# Altium footprint library Analog Devices Amplifiers and Linear Comparators.PcbLib: 67 footprints (part 2 of 5)
Each footprint in its own frame and in the unit in brackets; x right, y up, seen from the top. Pads: shape width x height; smd on the part's side, far side on the other; paste and mask are expansions set on the pad; w line width, h text height; cw(c..) or ccw(c..) is an arc to the next point about the centre after c.
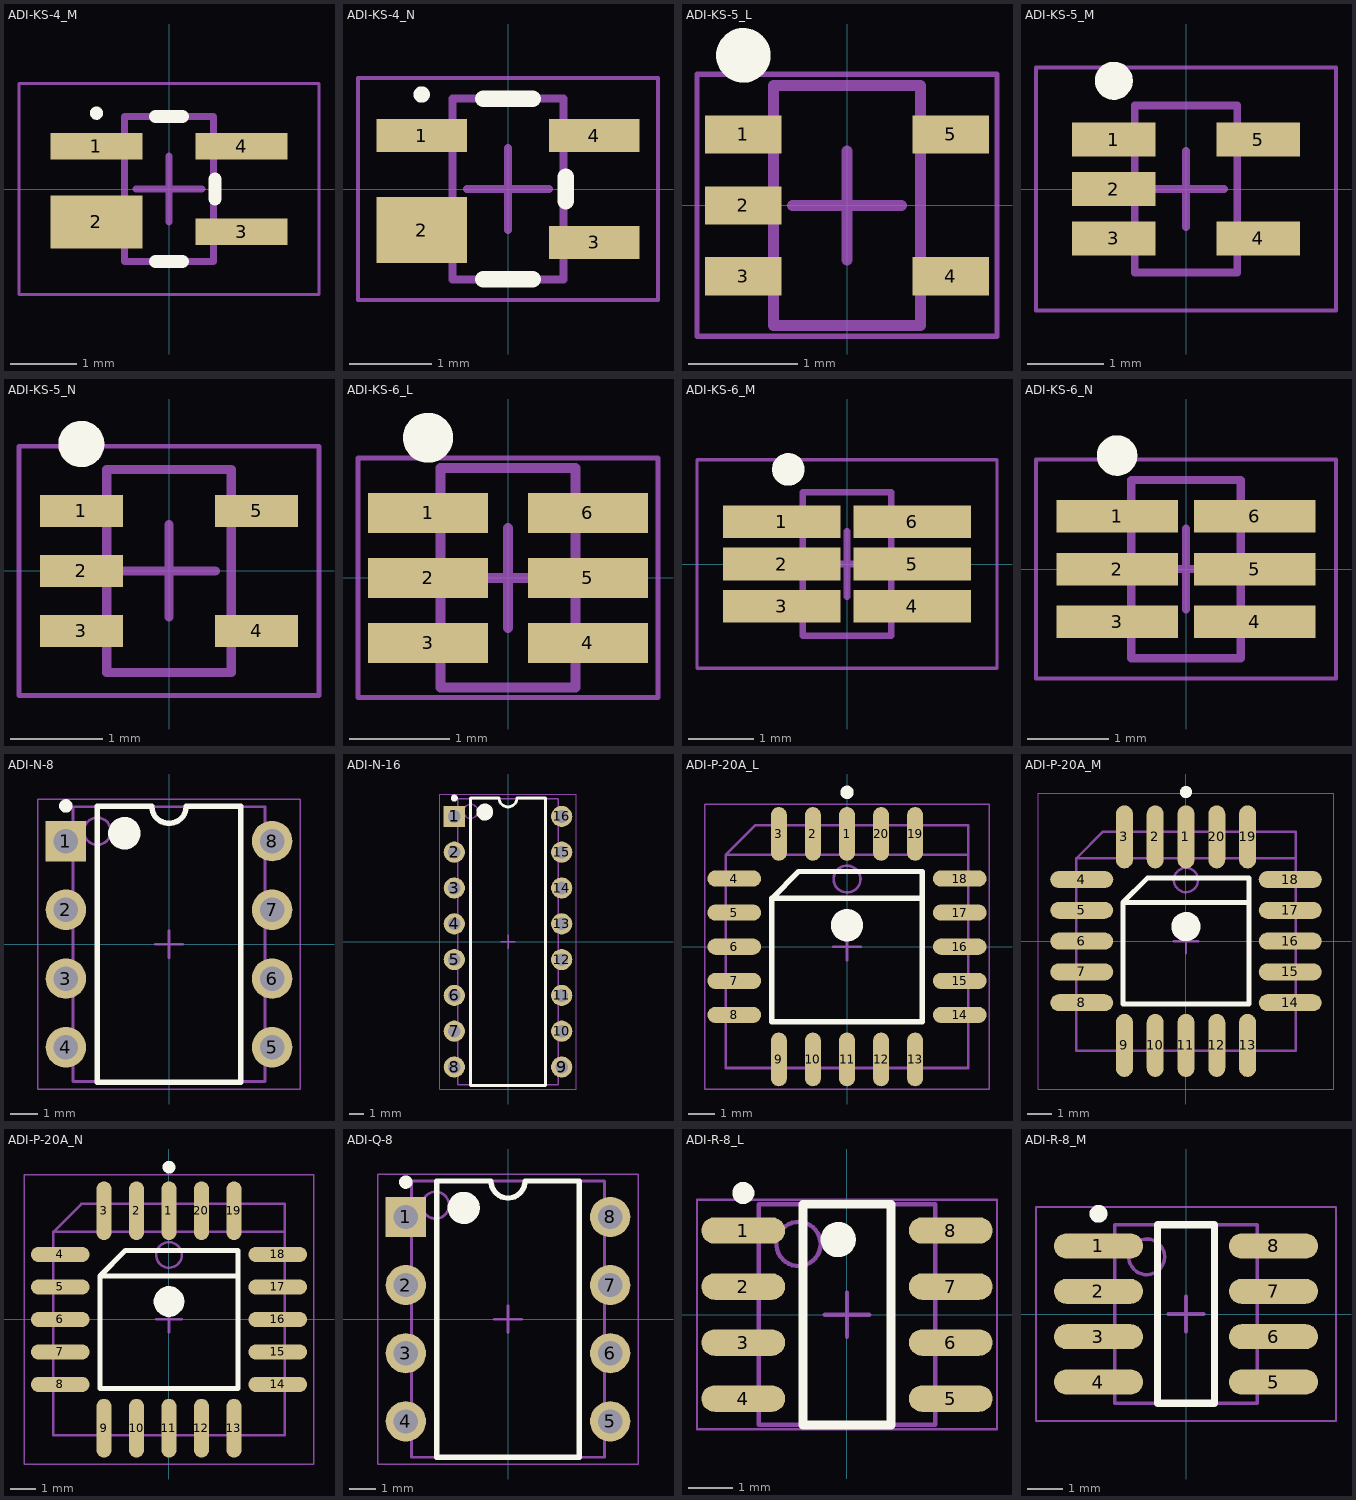
[diagram p1: the footprints below, top view; thin cyan lines are the x and y axes]

## ADI-KS-4_M [mm] "SOT143_343, 4-Leads, Body 2x1.25mm, Pitch 1.3mm, IPC Low Density"
height 1.1
pads (4):
  rect 1.4x0.4 smd: 1(-1.1,0.65) 3(1.1,-0.65) 4(1.1,0.65)
  rect 1.4x0.8 smd: 2(-1.1,-0.5)
Top Overlay:
  circle w0.1: c-1.1,1.15 r0.05
  lines w0.2: -0.2,-1.1 0.2,-1.1 ; -0.2,1.1 0.2,1.1 ; 0.7,-0.15 0.7,0.15
Mechanical 13:
  lines w0.1: -0.675,-1.1 -0.675,1.1 0.675,1.1 0.675,-1.1 -0.675,-1.1
Mechanical 15:
  lines w0.05: -2.275,-1.6 -2.275,1.6 2.275,1.6 2.275,-1.6 -2.275,-1.6
  lines w0.1: -0.5,0 0.5,0 ; 0,-0.5 0,0.5
3D body: height 1.1, standoff 0.1, extent -0.675,-1.1 0.675,1.1

## ADI-KS-4_N [mm] "SOT143_343, 4-Leads, Body 2x1.25mm, Pitch 1.3mm, IPC Medium Density"
height 1.1
pads (4):
  rect 1.1x0.4 smd: 1(-1.05,0.65) 3(1.05,-0.65) 4(1.05,0.65)
  rect 1.1x0.8 smd: 2(-1.05,-0.5)
Top Overlay:
  circle w0.1: c-1.05,1.15 r0.05
  lines w0.2: -0.3,-1.1 0.3,-1.1 ; -0.3,1.1 0.3,1.1 ; 0.7,-0.15 0.7,0.15
Mechanical 13:
  lines w0.1: -0.675,-1.1 -0.675,1.1 0.675,1.1 0.675,-1.1 -0.675,-1.1
Mechanical 15:
  lines w0.05: -1.825,-1.35 -1.825,1.35 1.825,1.35 1.825,-1.35 -1.825,-1.35
  lines w0.1: -0.5,0 0.5,0 ; 0,-0.5 0,0.5
3D body: height 1.1, standoff 0.1, extent -0.675,-1.1 0.675,1.1

## ADI-KS-5_L [mm] "SOT23, 5-Leads, Body 2x1.25mm, Pitch 0.65mm, IPC High Density"
height 1.1
pads (5):
  rect 0.7x0.35 smd: 1(-0.95,0.65) 2(-0.95,0) 3(-0.95,-0.65) 4(0.95,-0.65) 5(0.95,0.65)
Top Overlay:
  circle w0.25: c-0.95,1.375 r0.125
Mechanical 13:
  lines w0.1: -0.675,-1.1 -0.675,1.1 0.675,1.1 0.675,-1.1 -0.675,-1.1
Mechanical 15:
  lines w0.05: -1.375,-1.2 -1.375,1.2 1.375,1.2 1.375,-1.2 -1.375,-1.2
  lines w0.1: -0.5,0 0.5,0 ; 0,-0.5 0,0.5
3D body: height 1.1, standoff 0.1, extent -0.675,-1.1 0.675,1.1

## ADI-KS-5_M [mm] "SOT23, 5-Leads, Body 2x1.25mm, Pitch 0.65mm, IPC Low Density"
height 1.1
pads (5):
  rect 1.1x0.45 smd: 1(-0.95,0.65) 2(-0.95,0) 3(-0.95,-0.65) 4(0.95,-0.65) 5(0.95,0.65)
Top Overlay:
  circle w0.25: c-0.95,1.425 r0.125
Mechanical 13:
  lines w0.1: -0.675,-1.1 -0.675,1.1 0.675,1.1 0.675,-1.1 -0.675,-1.1
Mechanical 15:
  lines w0.05: -1.975,-1.6 -1.975,1.6 1.975,1.6 1.975,-1.6 -1.975,-1.6
  lines w0.1: -0.5,0 0.5,0 ; 0,-0.5 0,0.5
3D body: height 1.1, standoff 0.1, extent -0.675,-1.1 0.675,1.1

## ADI-KS-5_N [mm] "SOT23, 5-Leads, Body 2x1.25mm, Pitch 0.65mm, IPC Medium Density"
height 1.1
pads (5):
  rect 0.9x0.35 smd: 1(-0.95,0.65) 2(-0.95,0) 3(-0.95,-0.65) 4(0.95,-0.65) 5(0.95,0.65)
Top Overlay:
  circle w0.25: c-0.95,1.375 r0.125
Mechanical 13:
  lines w0.1: -0.675,-1.1 -0.675,1.1 0.675,1.1 0.675,-1.1 -0.675,-1.1
Mechanical 15:
  lines w0.05: -1.625,-1.35 -1.625,1.35 1.625,1.35 1.625,-1.35 -1.625,-1.35
  lines w0.1: -0.5,0 0.5,0 ; 0,-0.5 0,0.5
3D body: height 1.1, standoff 0.1, extent -0.675,-1.1 0.675,1.1

## ADI-KS-6_L [mm] "SOT23, 6-Leads, Body 2x1.25mm, Pitch 0.65mm, IPC High Density"
height 1.1
pads (6):
  rect 1.2x0.4 smd: 1(-0.8,0.65) 2(-0.8,0) 3(-0.8,-0.65) 4(0.8,-0.65) 5(0.8,0) 6(0.8,0.65)
Top Overlay:
  circle w0.25: c-0.8,1.4 r0.125
Mechanical 13:
  lines w0.1: -0.675,-1.1 -0.675,1.1 0.675,1.1 0.675,-1.1 -0.675,-1.1
Mechanical 15:
  lines w0.05: -1.5,-1.2 -1.5,1.2 1.5,1.2 1.5,-1.2 -1.5,-1.2
  lines w0.1: -0.5,0 0.5,0 ; 0,-0.5 0,0.5
3D body: height 1.1, standoff 0.1, extent -0.675,-1.1 0.675,1.1

## ADI-KS-6_M [mm] "SOT23, 6-Leads, Body 2x1.25mm, Pitch 0.65mm, IPC Low Density"
height 1.1
pads (6):
  rect 1.8x0.5 smd: 1(-1,0.65) 2(-1,0) 3(-1,-0.65) 4(1,-0.65) 5(1,0) 6(1,0.65)
Top Overlay:
  circle w0.25: c-0.9,1.45 r0.125
Mechanical 13:
  lines w0.1: -0.675,-1.1 0.675,-1.1 0.675,1.1 -0.675,1.1 -0.675,-1.1
Mechanical 15:
  lines w0.05: -2.3,-1.6 2.3,-1.6 2.3,1.6 -2.3,1.6 -2.3,-1.6
  lines w0.1: -0.5,0 0.5,0 ; 0,-0.5 0,0.5
3D body: height 1.1, standoff 0.1, extent -0.675,-1.1 0.675,1.1

## ADI-KS-6_N [mm] "SOT23, 6-Leads, Body 2x1.25mm, Pitch 0.65mm, IPC Medium Density"
height 1.1
pads (6):
  rect 1.5x0.4 smd: 1(-0.85,0.65) 2(-0.85,0) 3(-0.85,-0.65) 4(0.85,-0.65) 5(0.85,0) 6(0.85,0.65)
Top Overlay:
  circle w0.25: c-0.85,1.4 r0.125
Mechanical 13:
  lines w0.1: -0.675,-1.1 0.675,-1.1 0.675,1.1 -0.675,1.1 -0.675,-1.1
Mechanical 15:
  lines w0.05: -1.85,-1.35 1.85,-1.35 1.85,1.35 -1.85,1.35 -1.85,-1.35
  lines w0.1: -0.5,0 0.5,0 ; 0,-0.5 0,0.5
3D body: height 1.1, standoff 0.1, extent -0.675,-1.1 0.675,1.1

## ADI-N-8 [mm] "DIP, 8-Leads, Body 9.59x6.6mm, Pitch 2.54mm"
height 5.33
pads (8):
  rect 1.5x1.5 hole 0.9: 1(-3.81,3.81)
  round 1.5 hole 0.9: 2(-3.81,1.27) 3(-3.81,-1.27) 4(-3.81,-3.81) 5(3.81,-3.81) 6(3.81,-1.27) 7(3.81,1.27) 8(3.81,3.81)
Top Overlay:
  circle w0.25: c-3.81,5.11 r0.125
  circle w0.6: c-1.65,4.1 r0.3
  lines w0.2: -2.65,-5.1 -2.65,5.1 -0.635,5.1 ccw(c0,5.1) 0.635,5.1 2.65,5.1 2.65,-5.1 -2.65,-5.1
Mechanical 13:
  circle w0.1: c-2.65,4.175 r0.5
  lines w0.1: -3.55,-5.075 -3.55,5.075 3.55,5.075 3.55,-5.075 -3.55,-5.075
Mechanical 15:
  lines w0.05: -4.85,-5.35 -4.85,5.35 4.85,5.35 4.85,-5.35 -4.85,-5.35
  lines w0.1: -0.5,0 0.5,0 ; 0,-0.5 0,0.5
3D body: height 2.72, standoff 0, extent -3.945,3.31 -3.675,4.31
3D body: height 2.99, standoff 2.72, extent -3.945,3.31 -3.55,4.31
3D body: height 0, standoff -1.6, extent -3.945,3.45 -3.675,4.17
3D body: height 2.72, standoff 0, extent -3.945,0.77 -3.675,1.77
3D body: height 2.99, standoff 2.72, extent -3.945,0.77 -3.55,1.77
3D body: height 0, standoff -1.6, extent -3.945,0.91 -3.675,1.63
3D body: height 2.72, standoff 0, extent -3.945,-1.77 -3.675,-0.77
3D body: height 2.99, standoff 2.72, extent -3.945,-1.77 -3.55,-0.77
3D body: height 0, standoff -1.6, extent -3.945,-1.63 -3.675,-0.91
3D body: height 2.72, standoff 0, extent -3.945,-4.31 -3.675,-3.31
3D body: height 2.99, standoff 2.72, extent -3.945,-4.31 -3.55,-3.31
3D body: height 0, standoff -1.6, extent -3.945,-4.17 -3.675,-3.45
3D body: height 2.72, standoff 0, extent 3.675,-4.31 3.945,-3.31
3D body: height 2.99, standoff 2.72, extent 3.55,-4.31 3.945,-3.31
3D body: height 0, standoff -1.6, extent 3.675,-4.17 3.945,-3.45
3D body: height 2.72, standoff 0, extent 3.675,-1.77 3.945,-0.77
3D body: height 2.99, standoff 2.72, extent 3.55,-1.77 3.945,-0.77
3D body: height 0, standoff -1.6, extent 3.675,-1.63 3.945,-0.91
3D body: height 2.72, standoff 0, extent 3.675,0.77 3.945,1.77
3D body: height 2.99, standoff 2.72, extent 3.55,0.77 3.945,1.77
3D body: height 0, standoff -1.6, extent 3.675,0.91 3.945,1.63
3D body: height 2.72, standoff 0, extent 3.675,3.31 3.945,4.31
3D body: height 2.99, standoff 2.72, extent 3.55,3.31 3.945,4.31
3D body: height 0, standoff -1.6, extent 3.675,3.45 3.945,4.17
3D body: height 5.33, standoff 0.38, extent -3.55,-5.075 3.55,5.075

## ADI-N-16 [mm] "DIP, 16-Leads, Body 20.07x6.6mm, Pitch 2.54mm"
height 5.33
pads (16):
  rect 1.5x1.5 hole 0.9: 1(-3.81,8.89)
  round 1.5 hole 0.9: 2(-3.81,6.35) 3(-3.81,3.81) 4(-3.81,1.27) 5(-3.81,-1.27) 6(-3.81,-3.81) 7(-3.81,-6.35) 8(-3.81,-8.89) 9(3.81,-8.89) 10(3.81,-6.35) 11(3.81,-3.81) 12(3.81,-1.27) 13(3.81,1.27) 14(3.81,3.81) 15(3.81,6.35) 16(3.81,8.89)
Top Overlay:
  circle w0.25: c-3.81,10.19 r0.125
  circle w0.6: c-1.65,9.2 r0.3
  lines w0.2: -2.65,-10.2 -2.65,10.2 -0.635,10.2 ccw(c0,10.2) 0.635,10.2 2.65,10.2 2.65,-10.2 -2.65,-10.2
Mechanical 13:
  circle w0.1: c-2.65,9.25 r0.5
  lines w0.1: -3.55,-10.15 -3.55,10.15 3.55,10.15 3.55,-10.15 -3.55,-10.15
Mechanical 15:
  lines w0.05: -4.85,-10.45 -4.85,10.45 4.85,10.45 4.85,-10.45 -4.85,-10.45
  lines w0.1: -0.5,0 0.5,0 ; 0,-0.5 0,0.5
3D body: height 2.72, standoff 0, extent -3.945,8.39 -3.675,9.39
3D body: height 2.99, standoff 2.72, extent -3.945,8.39 -3.55,9.39
3D body: height 0, standoff -1.6, extent -3.945,8.53 -3.675,9.25
3D body: height 2.72, standoff 0, extent -3.945,5.85 -3.675,6.85
3D body: height 2.99, standoff 2.72, extent -3.945,5.85 -3.55,6.85
3D body: height 0, standoff -1.6, extent -3.945,5.99 -3.675,6.71
3D body: height 2.72, standoff 0, extent -3.945,3.31 -3.675,4.31
3D body: height 2.99, standoff 2.72, extent -3.945,3.31 -3.55,4.31
3D body: height 0, standoff -1.6, extent -3.945,3.45 -3.675,4.17
3D body: height 2.72, standoff 0, extent -3.945,0.77 -3.675,1.77
3D body: height 2.99, standoff 2.72, extent -3.945,0.77 -3.55,1.77
3D body: height 0, standoff -1.6, extent -3.945,0.91 -3.675,1.63
3D body: height 2.72, standoff 0, extent -3.945,-1.77 -3.675,-0.77
3D body: height 2.99, standoff 2.72, extent -3.945,-1.77 -3.55,-0.77
3D body: height 0, standoff -1.6, extent -3.945,-1.63 -3.675,-0.91
3D body: height 2.72, standoff 0, extent -3.945,-4.31 -3.675,-3.31
3D body: height 2.99, standoff 2.72, extent -3.945,-4.31 -3.55,-3.31
3D body: height 0, standoff -1.6, extent -3.945,-4.17 -3.675,-3.45
3D body: height 2.72, standoff 0, extent -3.945,-6.85 -3.675,-5.85
3D body: height 2.99, standoff 2.72, extent -3.945,-6.85 -3.55,-5.85
3D body: height 0, standoff -1.6, extent -3.945,-6.71 -3.675,-5.99
3D body: height 2.72, standoff 0, extent -3.945,-9.39 -3.675,-8.39
3D body: height 2.99, standoff 2.72, extent -3.945,-9.39 -3.55,-8.39
3D body: height 0, standoff -1.6, extent -3.945,-9.25 -3.675,-8.53
3D body: height 2.72, standoff 0, extent 3.675,-9.39 3.945,-8.39
3D body: height 2.99, standoff 2.72, extent 3.55,-9.39 3.945,-8.39
3D body: height 0, standoff -1.6, extent 3.675,-9.25 3.945,-8.53
3D body: height 2.72, standoff 0, extent 3.675,-6.85 3.945,-5.85
3D body: height 2.99, standoff 2.72, extent 3.55,-6.85 3.945,-5.85
3D body: height 0, standoff -1.6, extent 3.675,-6.71 3.945,-5.99
3D body: height 2.72, standoff 0, extent 3.675,-4.31 3.945,-3.31
3D body: height 2.99, standoff 2.72, extent 3.55,-4.31 3.945,-3.31
3D body: height 0, standoff -1.6, extent 3.675,-4.17 3.945,-3.45
3D body: height 2.72, standoff 0, extent 3.675,-1.77 3.945,-0.77
3D body: height 2.99, standoff 2.72, extent 3.55,-1.77 3.945,-0.77
3D body: height 0, standoff -1.6, extent 3.675,-1.63 3.945,-0.91
3D body: height 2.72, standoff 0, extent 3.675,0.77 3.945,1.77
3D body: height 2.99, standoff 2.72, extent 3.55,0.77 3.945,1.77
3D body: height 0, standoff -1.6, extent 3.675,0.91 3.945,1.63
3D body: height 2.72, standoff 0, extent 3.675,3.31 3.945,4.31
3D body: height 2.99, standoff 2.72, extent 3.55,3.31 3.945,4.31
3D body: height 0, standoff -1.6, extent 3.675,3.45 3.945,4.17
3D body: height 2.72, standoff 0, extent 3.675,5.85 3.945,6.85
3D body: height 2.99, standoff 2.72, extent 3.55,5.85 3.945,6.85
3D body: height 0, standoff -1.6, extent 3.675,5.99 3.945,6.71
3D body: height 2.72, standoff 0, extent 3.675,8.39 3.945,9.39
3D body: height 2.99, standoff 2.72, extent 3.55,8.39 3.945,9.39
3D body: height 0, standoff -1.6, extent 3.675,8.53 3.945,9.25
3D body: height 5.33, standoff 0.38, extent -3.55,-10.15 3.55,10.15

## ADI-P-20A_L [mm] "PLCC, 20-Leads, Body 8.965x8.965mm, Pitch 1.27mm, IPC High Density"
height 4.57
pads (20):
  oval 0.6x2 smd: 1(0,4.2) 2(-1.27,4.2) 3(-2.54,4.2) 9(-2.54,-4.2) 10(-1.27,-4.2) 11(0,-4.2) 12(1.27,-4.2) 13(2.54,-4.2) 19(2.54,4.2) 20(1.27,4.2)
  oval 2x0.6 smd: 4(-4.2,2.54) 5(-4.2,1.27) 6(-4.2,0) 7(-4.2,-1.27) 8(-4.2,-2.54) 14(4.2,-2.54) 15(4.2,-1.27) 16(4.2,0) 17(4.2,1.27) 18(4.2,2.54)
Top Overlay:
  circle w0.25: c0,5.75 r0.125
  circle w0.6: c0,0.8 r0.3
  lines w0.2: 2.8,1.8 -2.8,1.8 ; -2.8,1.8 -1.8,2.8 2.8,2.8 2.8,-2.8 -2.8,-2.8 -2.8,1.8
Mechanical 13:
  circle w0.1: c0,2.52 r0.5
  lines w0.1: 4.52,3.42 -4.52,3.42 ; -4.52,3.42 -4.52,-4.52 4.52,-4.52 4.52,4.52 -3.42,4.52 -4.52,3.42
Mechanical 15:
  lines w0.05: -5.3,-5.3 -5.3,5.3 5.3,5.3 5.3,-5.3 -5.3,-5.3
  lines w0.1: -0.5,0 0.5,0 ; 0,-0.5 0,0.5
3D body: height 4.57, standoff 0.51, extent -4.52,-4.52 4.52,4.52

## ADI-P-20A_M [mm] "PLCC, 20-Leads, Body 8.965x8.965mm, Pitch 1.27mm, IPC Low Density"
height 4.57
pads (20):
  oval 0.7x2.6 smd: 1(0,4.3) 2(-1.27,4.3) 3(-2.54,4.3) 9(-2.54,-4.3) 10(-1.27,-4.3) 11(0,-4.3) 12(1.27,-4.3) 13(2.54,-4.3) 19(2.54,4.3) 20(1.27,4.3)
  oval 2.6x0.7 smd: 4(-4.3,2.54) 5(-4.3,1.27) 6(-4.3,0) 7(-4.3,-1.27) 8(-4.3,-2.54) 14(4.3,-2.54) 15(4.3,-1.27) 16(4.3,0) 17(4.3,1.27) 18(4.3,2.54)
Top Overlay:
  circle w0.25: c0,6.15 r0.125
  circle w0.6: c0,0.6 r0.3
  lines w0.2: 2.6,1.6 -2.6,1.6 ; -2.6,1.6 -1.6,2.6 2.6,2.6 2.6,-2.6 -2.6,-2.6 -2.6,1.6
Mechanical 13:
  circle w0.1: c0,2.52 r0.5
  lines w0.1: 4.52,3.42 -4.52,3.42 ; -4.52,3.42 -4.52,-4.52 4.52,-4.52 4.52,4.52 -3.42,4.52 -4.52,3.42
Mechanical 15:
  lines w0.05: -6.1,-6.1 -6.1,6.1 6.1,6.1 6.1,-6.1 -6.1,-6.1
  lines w0.1: -0.5,0 0.5,0 ; 0,-0.5 0,0.5
3D body: height 4.57, standoff 0.51, extent -4.52,-4.52 4.52,4.52

## ADI-P-20A_N [mm] "PLCC, 20-Leads, Body 8.965x8.965mm, Pitch 1.27mm, IPC Medium Density"
height 4.57
pads (20):
  oval 0.6x2.3 smd: 1(0,4.25) 2(-1.27,4.25) 3(-2.54,4.25) 9(-2.54,-4.25) 10(-1.27,-4.25) 11(0,-4.25) 12(1.27,-4.25) 13(2.54,-4.25) 19(2.54,4.25) 20(1.27,4.25)
  oval 2.3x0.6 smd: 4(-4.25,2.54) 5(-4.25,1.27) 6(-4.25,0) 7(-4.25,-1.27) 8(-4.25,-2.54) 14(4.25,-2.54) 15(4.25,-1.27) 16(4.25,0) 17(4.25,1.27) 18(4.25,2.54)
Top Overlay:
  circle w0.6: c0,0.7 r0.3
  circle w0.25: c0,5.95 r0.125
  lines w0.2: 2.7,1.7 -2.7,1.7 ; -2.7,1.7 -2.7,-2.7 2.7,-2.7 2.7,2.7 -1.7,2.7 -2.7,1.7
Mechanical 13:
  circle w0.1: c0,2.52 r0.5
  lines w0.1: 4.52,3.42 -4.52,3.42 ; -4.52,3.42 -3.42,4.52 4.52,4.52 4.52,-4.52 -4.52,-4.52 -4.52,3.42
Mechanical 15:
  lines w0.05: -5.65,-5.65 5.65,-5.65 5.65,5.65 -5.65,5.65 -5.65,-5.65
  lines w0.1: -0.5,0 0.5,0 ; 0,-0.5 0,0.5
3D body: height 4.57, standoff 0.51, extent -4.52,-4.52 4.52,4.52

## ADI-Q-8 [mm] "DIP, 8-Leads, Body 10.29x6.73mm, Pitch 2.54mm"
height 5.08
pads (8):
  rect 1.5x1.5 hole 0.9: 1(-3.81,3.81)
  round 1.5 hole 0.9: 2(-3.81,1.27) 3(-3.81,-1.27) 4(-3.81,-3.81) 5(3.81,-3.81) 6(3.81,-1.27) 7(3.81,1.27) 8(3.81,3.81)
Top Overlay:
  circle w0.25: c-3.81,5.11 r0.125
  circle w0.6: c-1.65,4.15 r0.3
  lines w0.2: -2.65,-5.15 -2.65,5.15 -0.635,5.15 ccw(c0,5.15) 0.635,5.15 2.65,5.15 2.65,-5.15 -2.65,-5.15
Mechanical 13:
  circle w0.1: c-2.7,4.25 r0.5
  lines w0.1: -3.6,-5.15 -3.6,5.15 3.6,5.15 3.6,-5.15 -3.6,-5.15
Mechanical 15:
  lines w0.05: -4.85,-5.4 -4.85,5.4 4.85,5.4 4.85,-5.4 -4.85,-5.4
  lines w0.1: -0.5,0 0.5,0 ; 0,-0.5 0,0.5
3D body: height 2.6, standoff 0, extent -3.945,3.31 -3.675,4.31
3D body: height 2.87, standoff 2.6, extent -3.945,3.31 -3.6,4.31
3D body: height 0, standoff -1.6, extent -3.945,3.45 -3.675,4.17
3D body: height 2.6, standoff 0, extent -3.945,0.77 -3.675,1.77
3D body: height 2.87, standoff 2.6, extent -3.945,0.77 -3.6,1.77
3D body: height 0, standoff -1.6, extent -3.945,0.91 -3.675,1.63
3D body: height 2.6, standoff 0, extent -3.945,-1.77 -3.675,-0.77
3D body: height 2.87, standoff 2.6, extent -3.945,-1.77 -3.6,-0.77
3D body: height 0, standoff -1.6, extent -3.945,-1.63 -3.675,-0.91
3D body: height 2.6, standoff 0, extent -3.945,-4.31 -3.675,-3.31
3D body: height 2.87, standoff 2.6, extent -3.945,-4.31 -3.6,-3.31
3D body: height 0, standoff -1.6, extent -3.945,-4.17 -3.675,-3.45
3D body: height 2.6, standoff 0, extent 3.675,-4.31 3.945,-3.31
3D body: height 2.87, standoff 2.6, extent 3.6,-4.31 3.945,-3.31
3D body: height 0, standoff -1.6, extent 3.675,-4.17 3.945,-3.45
3D body: height 2.6, standoff 0, extent 3.675,-1.77 3.945,-0.77
3D body: height 2.87, standoff 2.6, extent 3.6,-1.77 3.945,-0.77
3D body: height 0, standoff -1.6, extent 3.675,-1.63 3.945,-0.91
3D body: height 2.6, standoff 0, extent 3.675,0.77 3.945,1.77
3D body: height 2.87, standoff 2.6, extent 3.6,0.77 3.945,1.77
3D body: height 0, standoff -1.6, extent 3.675,0.91 3.945,1.63
3D body: height 2.6, standoff 0, extent 3.675,3.31 3.945,4.31
3D body: height 2.87, standoff 2.6, extent 3.6,3.31 3.945,4.31
3D body: height 0, standoff -1.6, extent 3.675,3.45 3.945,4.17
3D body: height 5.08, standoff 0.38, extent -3.6,-5.15 3.6,5.15

## ADI-R-8_L [mm] "SOIC, 8-Leads, Body 4.9x3.9mm, Pitch 1.27mm, IPC High Density"
height 1.75
pads (8):
  oval 1.9x0.6 smd: 1(-2.35,1.905) 2(-2.35,0.635) 3(-2.35,-0.635) 4(-2.35,-1.905) 5(2.35,-1.905) 6(2.35,-0.635) 7(2.35,0.635) 8(2.35,1.905)
Top Overlay:
  circle w0.25: c-2.35,2.755 r0.125
  circle w0.4: c-0.2,1.7 r0.2
  lines w0.2: -1,-2.5 -1,2.5 1,2.5 1,-2.5 -1,-2.5
Mechanical 13:
  circle w0.1: c-1.1,1.6 r0.5
  lines w0.1: -2,-2.5 -2,2.5 2,2.5 2,-2.5 -2,-2.5
Mechanical 15:
  lines w0.05: -3.4,-2.6 -3.4,2.6 3.4,2.6 3.4,-2.6 -3.4,-2.6
  lines w0.1: -0.5,0 0.5,0 ; 0,-0.5 0,0.5
3D body: height 1.75, standoff 0.1, extent -2,-2.5 2,2.5

## ADI-R-8_M [mm] "SOIC, 8-Leads, Body 4.9x3.9mm, Pitch 1.27mm, IPC Low Density"
height 1.75
pads (8):
  oval 2.5x0.7 smd: 1(-2.45,1.905) 2(-2.45,0.635) 3(-2.45,-0.635) 4(-2.45,-1.905) 5(2.45,-1.905) 6(2.45,-0.635) 7(2.45,0.635) 8(2.45,1.905)
Top Overlay:
  circle w0.25: c-2.45,2.805 r0.125
  lines w0.2: -0.8,-2.5 -0.8,2.5 0.8,2.5 0.8,-2.5 -0.8,-2.5
Mechanical 13:
  circle w0.1: c-1.1,1.6 r0.5
  lines w0.1: -2,-2.5 -2,2.5 2,2.5 2,-2.5 -2,-2.5
Mechanical 15:
  lines w0.05: -4.2,-3 -4.2,3 4.2,3 4.2,-3 -4.2,-3
  lines w0.1: -0.5,0 0.5,0 ; 0,-0.5 0,0.5
3D body: height 1.75, standoff 0.1, extent -2,-2.5 2,2.5